# Altium footprint library PULV5.PcbLib: 32 footprints (part 1 of 2)
Each footprint in its own frame and in the unit in brackets; x right, y up, seen from the top. Pads: shape width x height; smd on the part's side, far side on the other; paste and mask are expansions set on the pad; w line width, h text height; cw(c..) or ccw(c..) is an arc to the next point about the centre after c.
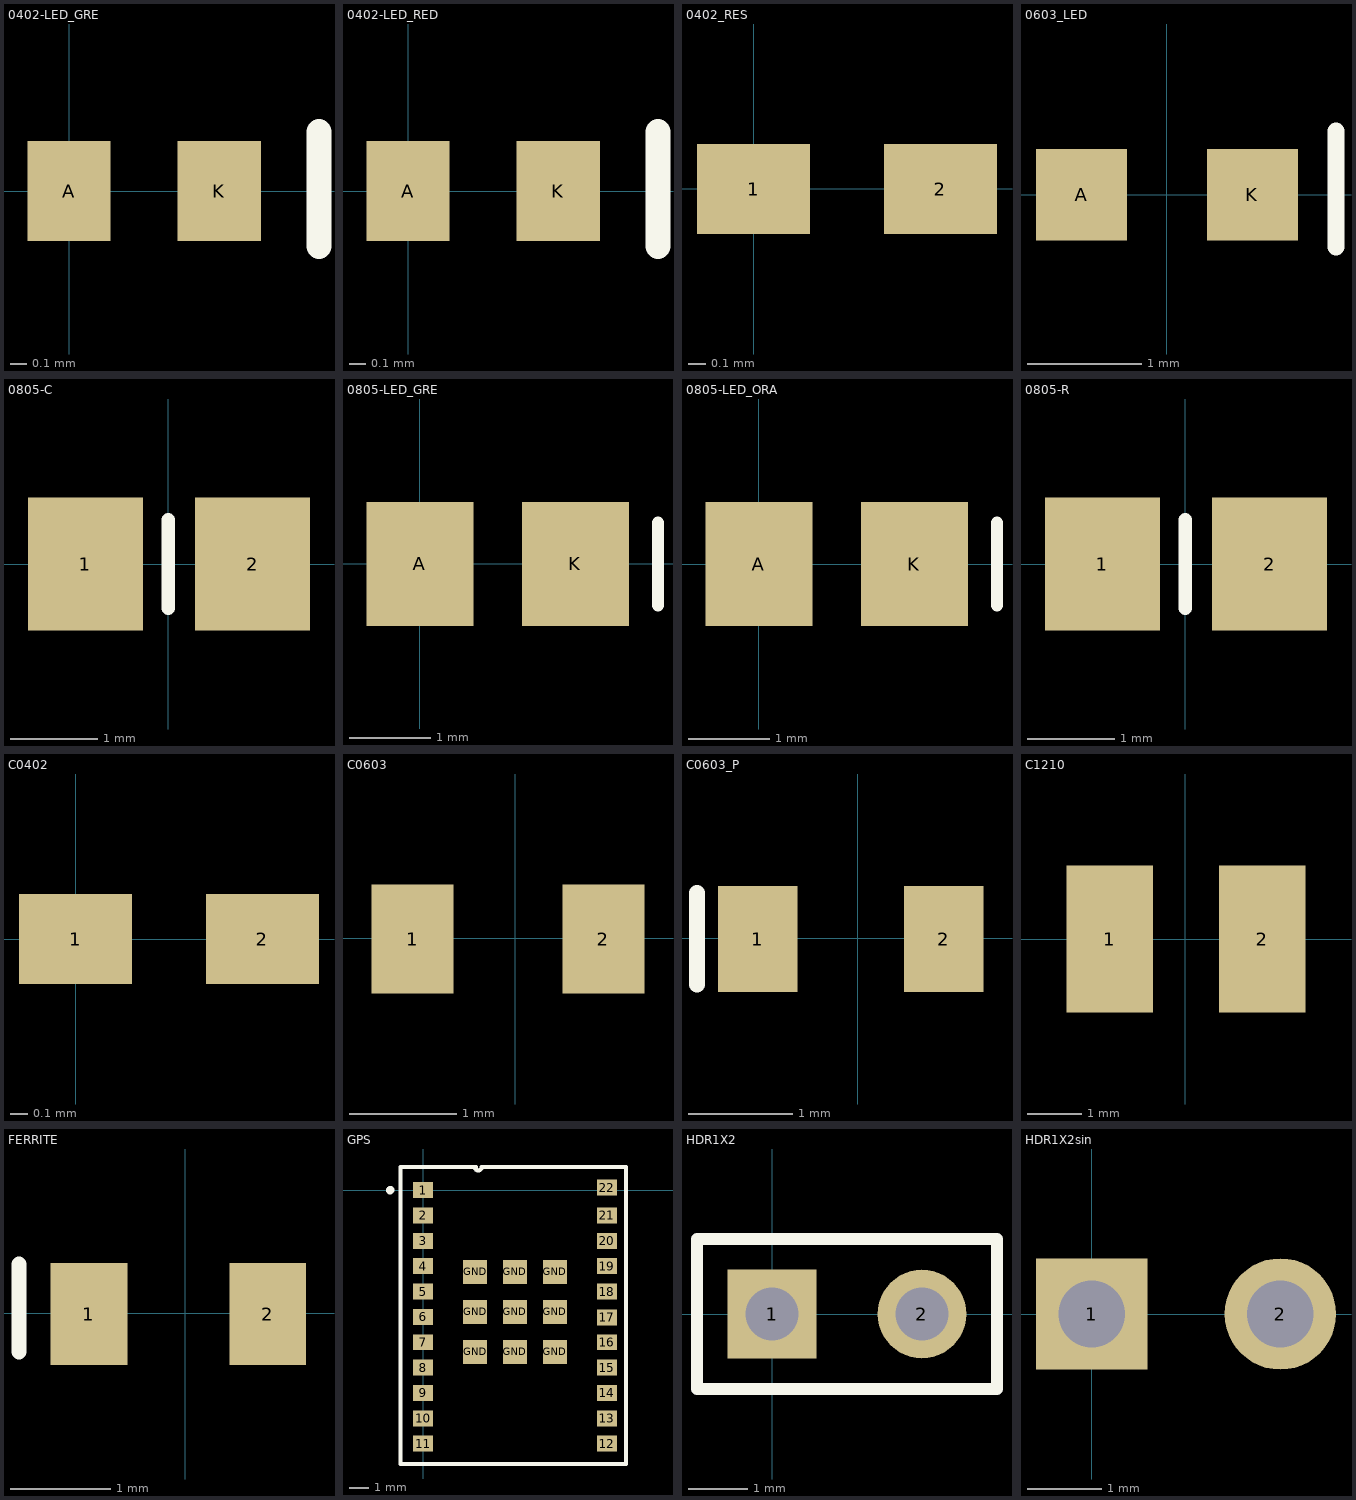
[diagram p0: the footprints below, top view; thin cyan lines are the x and y axes]

## 0402-LED_GRE [mm]
pads (2):
  rect 0.5x0.6 smd: A(0,0) K(0.9,0)
Top Overlay:
  lines w0.152: 1.499,-0.33 1.499,0.356
3D body: height 0.2, standoff 0, extent -0.068,-0.3 0.932,0.3

## 0402-LED_RED [mm]
pads (2):
  rect 0.5x0.6 smd: A(0,0) K(0.9,0)
Top Overlay:
  lines w0.152: 1.499,-0.33 1.499,0.356
3D body: height 0.2, standoff 0, extent -0.017,-0.3 0.983,0.3

## 0402_RES [mil]
pads (2):
  rect 25x20 smd: 1(0,0) 2(41.34,0)
3D body: height 7.95, standoff 0, extent 0.31,-10 39.69,13.62

## 0603_LED [mm]
pads (2):
  rect 0.8x0.8 smd: A(-0.75,0) K(0.75,0)
Top Overlay:
  lines w0.152: 1.485,-0.457 1.485,0.559
3D body: height 0.6, standoff 0, extent -0.798,-0.419 0.822,0.381

## 0805-C [mil]
pads (2):
  rect 52x60 smd: 1(-37.4,0) 2(38,0)
Top Overlay:
  lines w6: 0,-20 0,20
Mechanical 16:
  rectangle: 14,-28.5 44,29
  rectangle: -43,-28.5 -13.47,29
3D body: height 31.5, standoff 0, extent -40.37,-25.21 38.37,24

## 0805-LED_GRE [mil]
pads (2):
  rect 52x60 smd: A(0,0) K(75.4,0)
Top Overlay:
  lines w6: 115.4,-20 115.4,20
Mechanical 16:
  rectangle: 51.4,-28.5 81.4,29
  rectangle: -5.6,-28.5 23.93,29
3D body: height 50.56, standoff -1.63, extent -5.28,-25.12 85.28,30

## 0805-LED_ORA [mil]
pads (2):
  rect 52x60 smd: A(0,0) K(75.4,0)
Top Overlay:
  lines w6: 115.4,-20 115.4,20
Mechanical 16:
  rectangle: 51.4,-28.5 81.4,29
  rectangle: -5.6,-28.5 23.93,29
3D body: height 27.56, standoff -24.63, extent -10.27,-27.56 80.28,27.56

## 0805-R [mil]
pads (2):
  rect 52x60 smd: 1(-37.4,0) 2(38,0)
Top Overlay:
  lines w6: 0,-20 0,20
Mechanical 16:
  rectangle: -43,-28.5 -13.47,29
  rectangle: 14,-28.5 44,29
3D body: height 30.79, standoff 0, extent -42.37,-24.01 36.37,25.21

## C0402 [mil]
pads (2):
  rect 25x20 smd: 1(0,0) 2(41.34,0)
3D body: height 7.95, standoff 0, extent 0.32,-11.81 39.69,11.81

## C0603 [mil]
pads (2):
  rect 30x40 smd: 1(-37.62,-0.24) 2(32.38,-0.24)
3D body: height 31.5, standoff 0, extent -36.49,-15.74 26.5,15.75

## C0603_P [mil]
pads (2):
  rect 30x40 smd: 1(-37.62,-0.24) 2(32.38,-0.24)
Top Overlay:
  lines w6: -60.46,-17.27 -60.46,17.02
3D body: height 11.81, standoff 0, extent 15.49,-12.31 29.99,11.49
3D body: height 35.43, standoff 3.94, extent -34.85,-17.22 29.82,16.95
3D body: height 35.83, standoff 35.43, extent -34.92,-17.2 -13.76,16.98
3D body: height 11.81, standoff 0, extent -35.14,-11.97 -20.36,11.82

## C1210 [mil]
pads (2):
  rect 63x107 smd: 1(-55.12,0) 2(56,0)
Mechanical 16:
  rectangle: 38,-51.36 67,51
  rectangle: -67,-51 -37.47,52
3D body: height 37.4, standoff -0.39, extent -85.78,-53.39 79.57,52.91

## FERRITE [mil]
pads (2):
  rect 30x40 smd: 1(-37.62,-0.24) 2(32.38,-0.24)
Top Overlay:
  lines w6: -65,-15 -65,19.29
3D body: height 15.75, standoff -15.75, extent -36.5,-15.75 26.49,15.75

## GPS [mm]
pads (31):
  rect 1x0.8 smd: 1(0,0) 2(0,-1.27) 3(0,-2.54) 4(0,-3.81) 5(0,-5.08) 6(0,-6.35) 7(0,-7.62) 8(0,-8.89) 9(0,-10.16) 10(0,-11.43) 11(0,-12.7) 12(9.2,-12.7) 13(9.2,-11.43) 14(9.2,-10.16) 15(9.2,-8.89) 16(9.2,-7.62) 17(9.2,-6.37) 18(9.2,-5.08) 19(9.2,-3.81) 20(9.2,-2.54) 21(9.2,-1.27) 22(9.2,0.127)
  rect 1.2x1.2 smd: GND(2.6,-8.1) GND(2.6,-6.1) GND(2.6,-4.1) GND(4.6,-8.1) GND(4.6,-6.1) GND(4.6,-4.1) GND(6.6,-8.1) GND(6.6,-6.1) GND(6.6,-4.1)
Top Overlay:
  circle w0.4: c-1.651,0 r0.01
  lines w0.2: 2.596,1.143 ccw(c2.759,1.143) 2.921,1.143 3.78,1.143 10.16,1.143 10.16,-13.716 -1.143,-13.716 -1.143,1.143 2.637,1.143

## HDR1X2 [mm]
pads (2):
  rect 1.5x1.5 hole 0.9: 1(0,0)
  round 1.5 hole 0.9: 2(2.54,0)
Top Overlay:
  lines w0.2: -1.27,-1.27 -1.27,1.27 3.81,1.27 3.81,-1.27 -1.27,-1.27

## HDR1X2sin [mm]
pads (2):
  rect 1.5x1.5 hole 0.9: 1(0,0)
  round 1.5 hole 0.9: 2(2.54,0)